# Altium schematic symbol library SCH - PASSIVES - INDUCTOR CD54.SCHLIB: 1 symbol
Pins are listed as number, name and electrical type; pins without a type are passive.

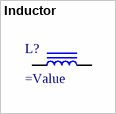
[diagram p0: symbol Inductor]

## Inductor
designator L?
CD54 SMT Inductor
footprint CD54 (SMD Power Inductor, 2-Leads, body 5.8x5.2mm)
pins: 1, 2